# EAGLE library part ADR127B (library Octanis1_EPS)
ANALOG DEVICES - ADR127BUJZ-REEL7 - VOLTAGE REFERENCE, SERIES, 3.3V, TSOT-6
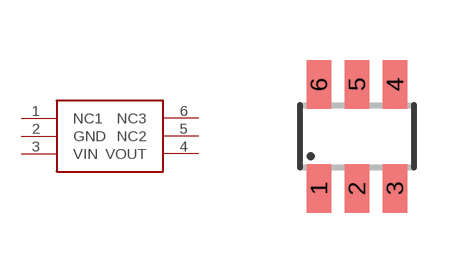
[diagram p5: symbol with the pads of TSOT23-6; footprint TSOT23-6]

Designator prefix -

## ADR127B  [TSOT23-6]
1  NC1
2  GND
3  VIN
4  VOUT
5  NC2
6  NC3

## Footprint TSOT23-6 (pad centres in mm)
S6 Package 6-Lead Plastic TSOT-23 Source: http://cds.linear.com/docs/Datasheet/623012fb.pdf
smd 0.62 x 1.22: 1 -0.95,-1.3; 2 0,-1.3; 3 0.95,-1.3; 4 0.95,1.3; 5 0,1.3; 6 -0.95,1.3